# Altium schematic symbol library Schlib1.SchLib: 3 symbols
Pins are listed as number, name and electrical type; pins without a type are passive.

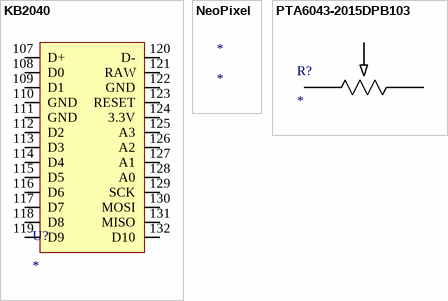
[diagram p0: symbols KB2040 to PTA6043-2015DPB103]

## KB2040
designator U?
Keyboard IC breakour board; ComponentLink1Description: Datasheet; ComponentLink1URL: https://learn.adafruit.com/adafruit-kb2040/overview
footprint KB2040
pins: 107 D+, 108 D0, 109 D1, 110 GND, 111 GND, 112 D2, 113 D3, 114 D4, 115 D5, 116 D6, 117 D7, 118 D8, 119 D9, 120 D-, 121 RAW, 122 GND, 123 RESET, 124 3.3V, 125 A3, 126 A2, 127 A1, 128 A0, 129 SCK, 130 MOSI, 131 MISO, 132 D10

## NeoPixel
designator *

## PTA6043-2015DPB103
designator R?
No Description Available; Mfr_Name: Bourns Electronics
footprint POT_PTA6043
pins: 1, 2, 3